# EAGLE library part AON7804 (library mosfet)
Mosfet Array 2 N-Channel (Dual) 30V 9A 3.1W Surface Mount 8-DFN-EP (3x3) Datasheet <http://aosmd.com/res/data_sheets/AON7804.pdf>
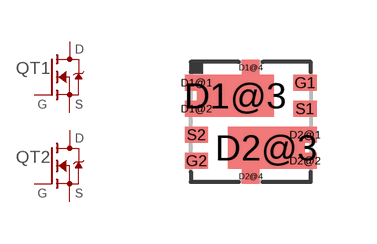
[diagram p4: symbol with the pads of DFN3X3_8L-EP2_P; footprint DFN3X3_8L-EP2_P]

Designator prefix Q; gates T1=N-MOSFET T2=N-MOSFET

## AON7804 (DIGIKEY#: 785-1586-2-ND; MANF: Alpha & Omega Semiconductor Inc; MANF#: AON7804; PACKAGE: DFN3x3)  [DFN3X3_8L-EP2_P]
D1@1  T1:D  pas
D1@2  T1:D  pas
D1@3  T1:D  pas
D1@4  T1:D  pas
D2@1  T2:D  pas
D2@2  T2:D  pas
D2@3  T2:D  pas
D2@4  T2:D  pas
G1  T1:G  pas
G2  T2:G  pas
S1  T1:S  pas
S2  T2:S  pas

## Footprint DFN3X3_8L-EP2_P (pad centres in mm)
Datasheet <http://www.aosmd.com/res/packaging_information/DFN3x3-8L%20EP2_P.pdf>
smd 0.58 x 0.4: D1@1 -1.36,0.975; D1@2 -1.36,0.325; D2@1 1.36,-0.325; D2@2 1.36,-0.975; G1 1.36,0.975; G2 -1.36,-0.975; S1 1.36,0.325; S2 -1.36,-0.325
smd 1.925 x 1.05: D1@3 -0.388,0.65; D2@3 0.388,-0.65
smd 0.43 x 0.37: D1@4 0,1.36; D2@4 0,-1.36